# EAGLE library part LM293D (library misc)
Low-power, dual-voltage comparators
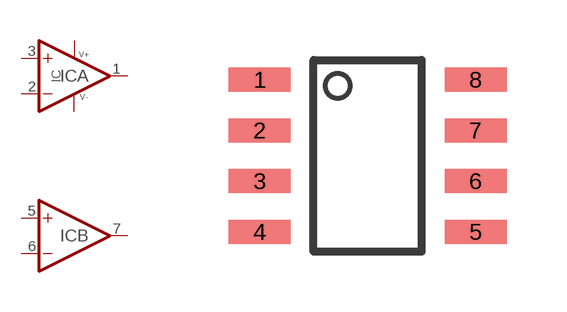
[diagram p22: symbol with the pads of SOIC8; footprint SOIC8]

Designator prefix IC; gates A=OPAMP B=OPAMP P=PWR+-

## LM293D-SO8 (MANF: STMicroelectronics; MANF#: LM293D)  [SOIC8]
1  A:OUT  out
2  A:IN-  in
3  A:IN+  in
4  P:V-  pwr
5  B:IN+  in
6  B:IN-  in
7  B:OUT  out
8  P:V+  pwr

## Footprint SOIC8 (pad centres in mm)
https://www.ti.com/lit/ds/snvsaq5a/snvsaq5a.pdf?ts=1602424164509
smd 1.55 x 0.6: 1 -2.7,1.905; 2 -2.7,0.635; 3 -2.7,-0.635; 4 -2.7,-1.905; 5 2.7,-1.905; 6 2.7,-0.635; 7 2.7,0.635; 8 2.7,1.905